# EAGLE library part DIPSW4 (library dipsw)
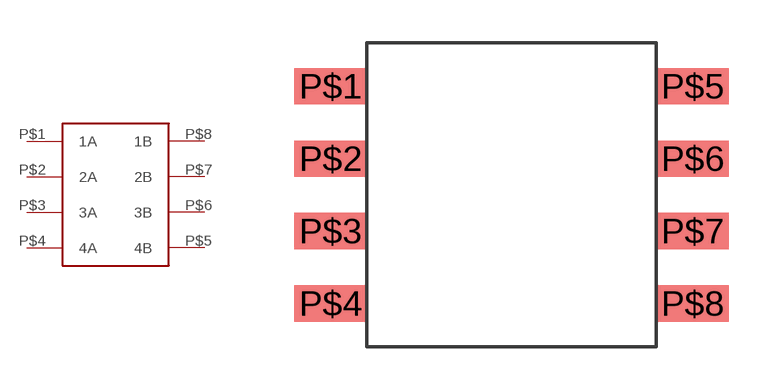
[diagram p0: symbol with the pads of 4_SMT_2.54; footprint 4_SMT_2.54]

Designator prefix -

## DIPSW4  [4_SMT_2.54]
P$1  1A
P$2  2A
P$3  3A
P$4  4A
P$5  4B
P$6  3B
P$7  2B
P$8  1B

## Footprint 4_SMT_2.54 (pad centres in mm)
smd 2.54 x 1.27: P$1 -1.27,-1.524; P$2 -1.27,-4.064; P$3 -1.27,-6.604; P$4 -1.27,-9.144; P$5 11.43,-1.524; P$6 11.43,-4.064; P$7 11.43,-6.604; P$8 11.43,-9.144